# EAGLE library part 690357101072 (library WR-MM)
WR-MM Male Connector w/o Latch & w. Polarization Material Properties Insulator Material PBT Insulator Flammability Rating UL94 V-0 Insulator Color Red Contact Material Phosphor Bronze Contact Plating Matte Tin over Nickel Contact Type Stamped Packaging Properties cULus Approval E323964 Packaging Tube General Information Operating Temperature -40 °C up to +105 °C Pitch 2.54 mm Gender Male Electrical Properties Working Voltage 250 V (AC) Withstanding Voltage 500 V (AC) Contact Resistance 10 mΩ RISO 1000 MΩ <https://www.we-online.com/components/media/o33157v209%2069035710xx72_Multi-parts.jpg> Details see: www.we-online.com/en/components/products/MM_1_27_MALE_CONNECTOR_W_O_LATCH_AND_WITH_POLARIZATION_69035710XX72 <www.we-online.com/catalog/MM_1_27_MALE_CONNECTOR_W_O_LATCH_AND_WITH_POLARIZATION_69035710XX72/?utm_source=eagle_model&utm_medium=description_link&utm_campaign=eisos_eagle> Updated by Ella 2025-02-28 2025 (C) Würth Elektronik
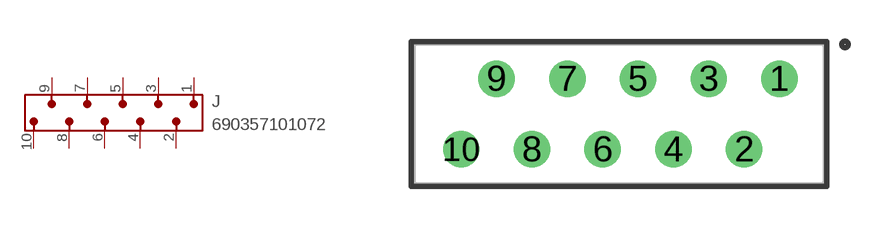
[diagram p93: symbol with the pads of 690357101072; footprint 690357101072]

Designator prefix J

## 690357101072 (DATASHEET-URL: https://www.we-online.com/redexpert/spec/690357101072?ae; GENDER: Male; IR: 1.5A; PACKAGING: Tube; PART-NUMBER: 690357101072; PINS: 10; PITCH: 2.54; TYPE: Straight; VALUE: 690357101072)  [690357101072]
1  1  pas
2  2  pas
3  3  pas
4  4  pas
5  5  pas
6  6  pas
7  7  pas
8  8  pas
9  9  pas
10  10  pas

## Footprint 690357101072 (pad centres in mm)
WR-MM Male Connector w/o Latch & w. Polarization, 10 Pins
drill 0.8: 1 5.76,1.27; 2 4.49,-1.27; 3 3.22,1.27; 4 1.95,-1.27; 5 0.68,1.27; 6 -0.59,-1.27; 7 -1.86,1.27; 8 -3.13,-1.27; 9 -4.4,1.27; 10 -5.67,-1.27